# EAGLE library part TPS548A20 (library calsat)
TPS548A20 switching voltage regulator
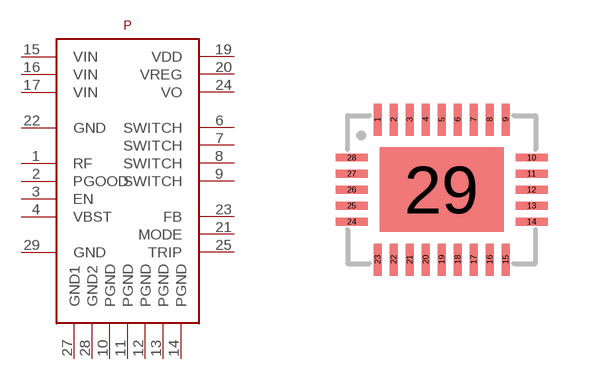
[diagram p5: symbol with the pads of R-PWQFN-N28; footprint R-PWQFN-N28]

Designator prefix P

## TPS548A20  [R-PWQFN-N28]
1  RF  in
2  PGOOD  out
3  EN  in
4  VBST  pwr
6  SWITCH
7  SWITCH
8  SWITCH
9  SWITCH
10  PGND  pwr
11  PGND  pwr
12  PGND  pwr
13  PGND  pwr
14  PGND  pwr
15  VIN  pwr
16  VIN  pwr
17  VIN  pwr
19  VDD  pwr
20  VREG  out
21  MODE  in
22  GND  pwr
23  FB  in
24  VO  in
25  TRIP
27  GND1  pwr
28  GND2  pwr
29  GND  pwr

## Footprint R-PWQFN-N28 (pad centres in mm)
smd 0.2 x 0.8: 1 -1.6,1.75; 2 -1.2,1.75; 3 -0.8,1.75; 4 -0.4,1.75; 5 0,1.75; 6 0.4,1.75; 7 0.8,1.75; 8 1.2,1.75; 9 1.6,1.75; 15 1.6,-1.75; 16 1.2,-1.75; 17 0.8,-1.75; 18 0.4,-1.75; 19 0,-1.75; 20 -0.4,-1.75; 21 -0.8,-1.75; 22 -1.2,-1.75; 23 -1.6,-1.75
smd 0.8 x 0.2: 10 2.25,0.8; 11 2.25,0.4; 12 2.25,0; 13 2.25,-0.4; 14 2.25,-0.8; 24 -2.25,-0.8; 25 -2.25,-0.4; 26 -2.25,0; 27 -2.25,0.4; 28 -2.25,0.8
smd 3.1 x 2.1: 29 0,0